# Altium footprint library UD(10X10).PcbLib: 1 footprints
Each footprint in its own frame and in the unit in brackets; x right, y up, seen from the top. Pads: shape width x height; smd on the part's side, far side on the other; paste and mask are expansions set on the pad; w line width, h text height; cw(c..) or ccw(c..) is an arc to the next point about the centre after c.
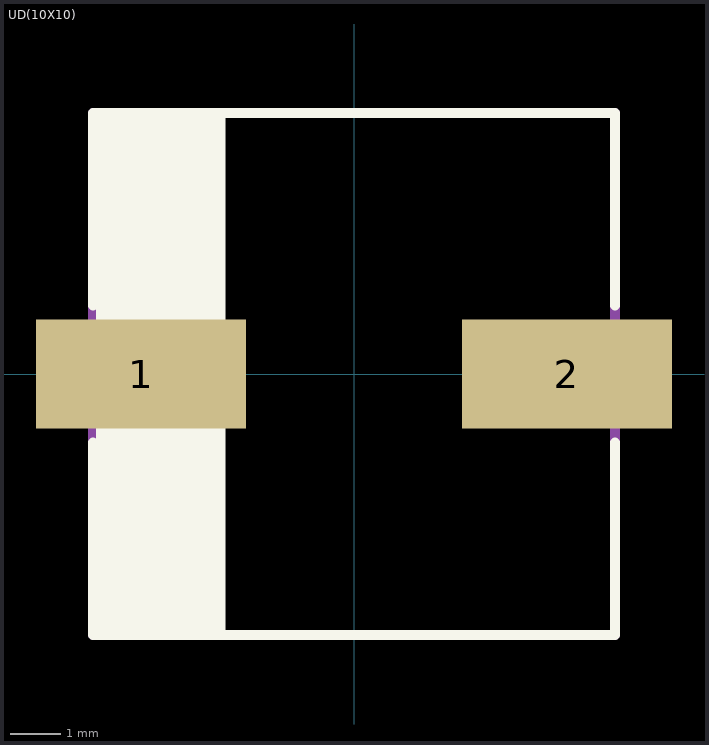
[diagram p0: the footprint, top view; thin cyan lines are the x and y axes]

## UD(10X10) [mm]
pads (2):
  rect 4.15x2.15 smd: 1(-4.2,0) 2(4.2,0)
Top Overlay:
  region: -2.54,-5.08 -5.08,-5.08 -5.08,5.08 -2.54,5.08
  lines w0.2: -5.15,-1.35 -5.15,-5.15 5.15,-5.15 5.15,-1.35 ; -5.15,1.35 -5.15,5.15 5.15,5.15 5.15,1.35
Mechanical 13:
  lines w0.2: -5.15,-5.15 5.15,-5.15 5.15,5.15 -5.15,5.15 -5.15,-5.15